# Altium schematic symbol library 2uStabilizer.SchLib: 1 symbol
Pins are listed as number, name and electrical type; pins without a type are passive.

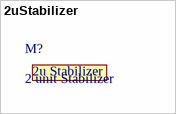
[diagram p0: symbol 2uStabilizer]

## 2uStabilizer
designator M?, comment 2 unit Stabilizer
footprint 2uStabilizer
text: 2u Stabilizer